# EAGLE library part RPI3 (library OPI-PC2)
Device for Raspberry Pi 3 board created by Dave Young for www.element14.com More information and support community is available at https://www.element14.com/community/community/raspberry-pi
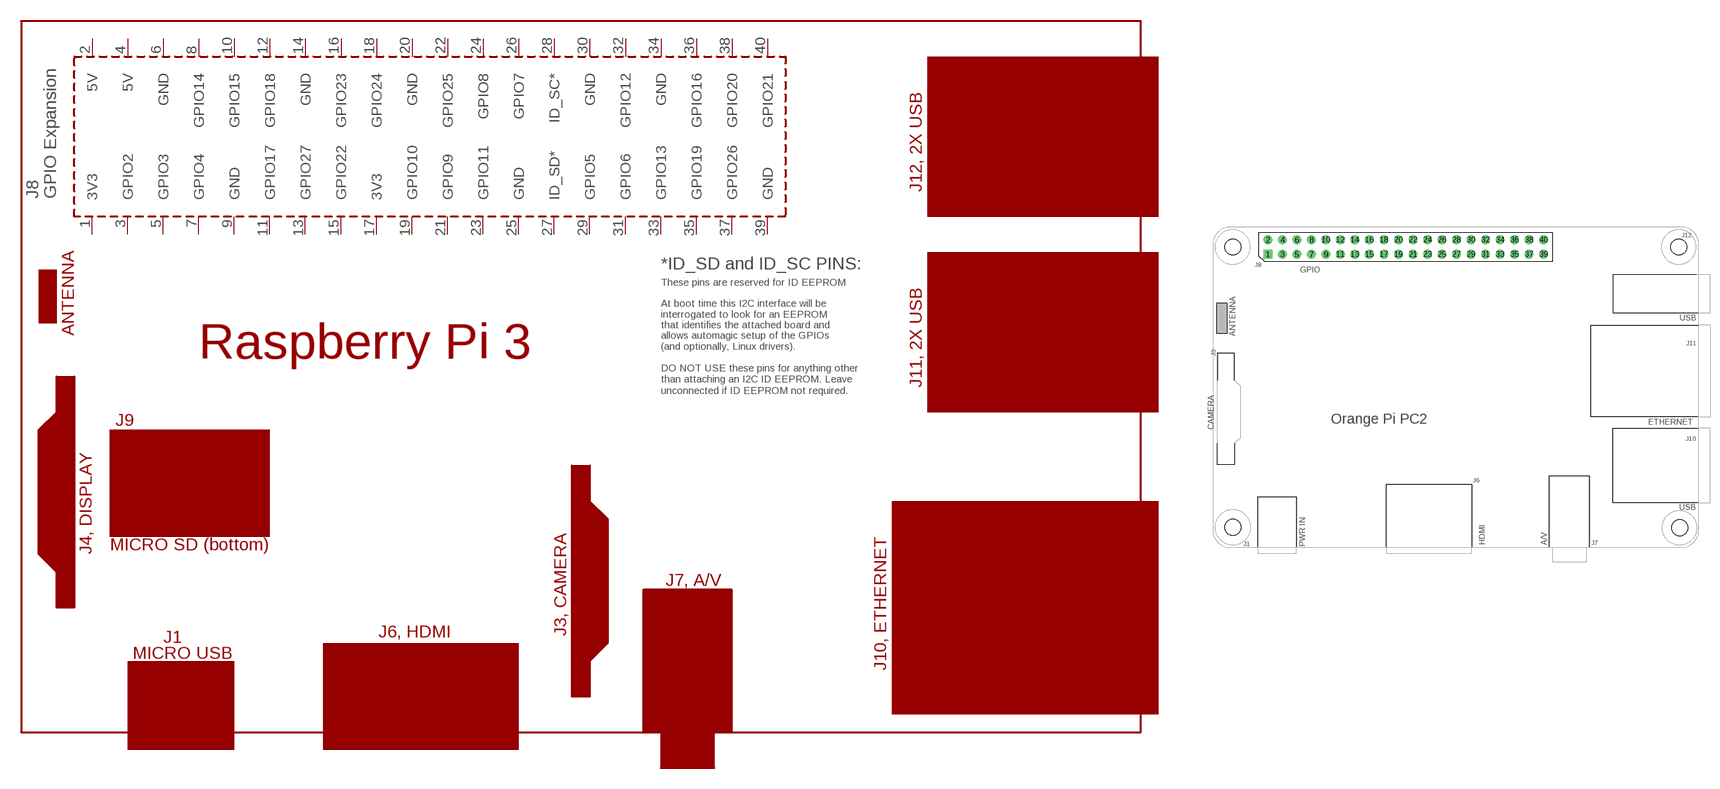
[diagram p0: symbol with the pads of RPI3; footprint RPI3]

Designator prefix PCB

## RPI3  [RPI3]
1  3V3
2  5V
3  GPIO2
4  5V
5  GPIO3
6  GND
7  GPIO4
8  GPIO14
9  GND
10  GPIO15
11  GPIO17
12  GPIO18
13  GPIO27
14  GND
15  GPIO22
16  GPIO23
17  3V3
18  GPIO24
19  GPIO10
20  GND
21  GPIO9
22  GPIO25
23  GPIO11
24  GPIO8
25  GND
26  GPIO7
27  ID_SD*
28  ID_SC*
29  GPIO5
30  GND
31  GPIO6
32  GPIO12
33  GPIO13
34  GND
35  GPIO19
36  GPIO16
37  GPIO26
38  GPIO20
39  GND
40  GPIO21

## Footprint RPI3 (pad centres in mm)
Package for the Raspberry Pi 3 board created by Dave Young for www.elemenet14.com based on documented dimensions and board measurements. For more documentation, please visit http://www.raspberrypi.org/documentation/hardware/raspberrypi/
drill 1.016 square: 1 9.64,51.23
drill 1.016: 2 9.627,53.772; 3 12.167,51.232; 4 12.167,53.772; 5 14.707,51.232; 6 14.707,53.772; 7 17.247,51.232; 8 17.247,53.772; 9 19.787,51.232; 10 19.787,53.772; 11 22.327,51.232; 12 22.327,53.772; 13 24.867,51.232; 14 24.867,53.772; 15 27.407,51.232; 16 27.407,53.772; 17 29.947,51.232; 18 29.947,53.772; 19 32.487,51.232; 20 32.487,53.772; 21 35.027,51.232; 22 35.027,53.772; 23 37.567,51.232; 24 37.567,53.772; 25 40.107,51.232; 26 40.107,53.772; 27 42.647,51.232; 28 42.647,53.772; 29 45.187,51.232; 30 45.187,53.772; 31 47.727,51.232; 32 47.727,53.772; 33 50.267,51.232; 34 50.267,53.772; 35 52.807,51.232; 36 52.807,53.772; 37 55.347,51.232; 38 55.347,53.772; 39 57.887,51.232; 40 57.887,53.772
hole 2.75 at 3.5,3.5
hole 2.75 at 81.67,3.42
hole 2.75 at 3.5,52.5
hole 2.75 at 81.5,52.5